# Altium schematic symbol library WatchX_Pro.SCHLIB: 25 symbols
Pins are listed as number, name and electrical type; pins without a type are passive.

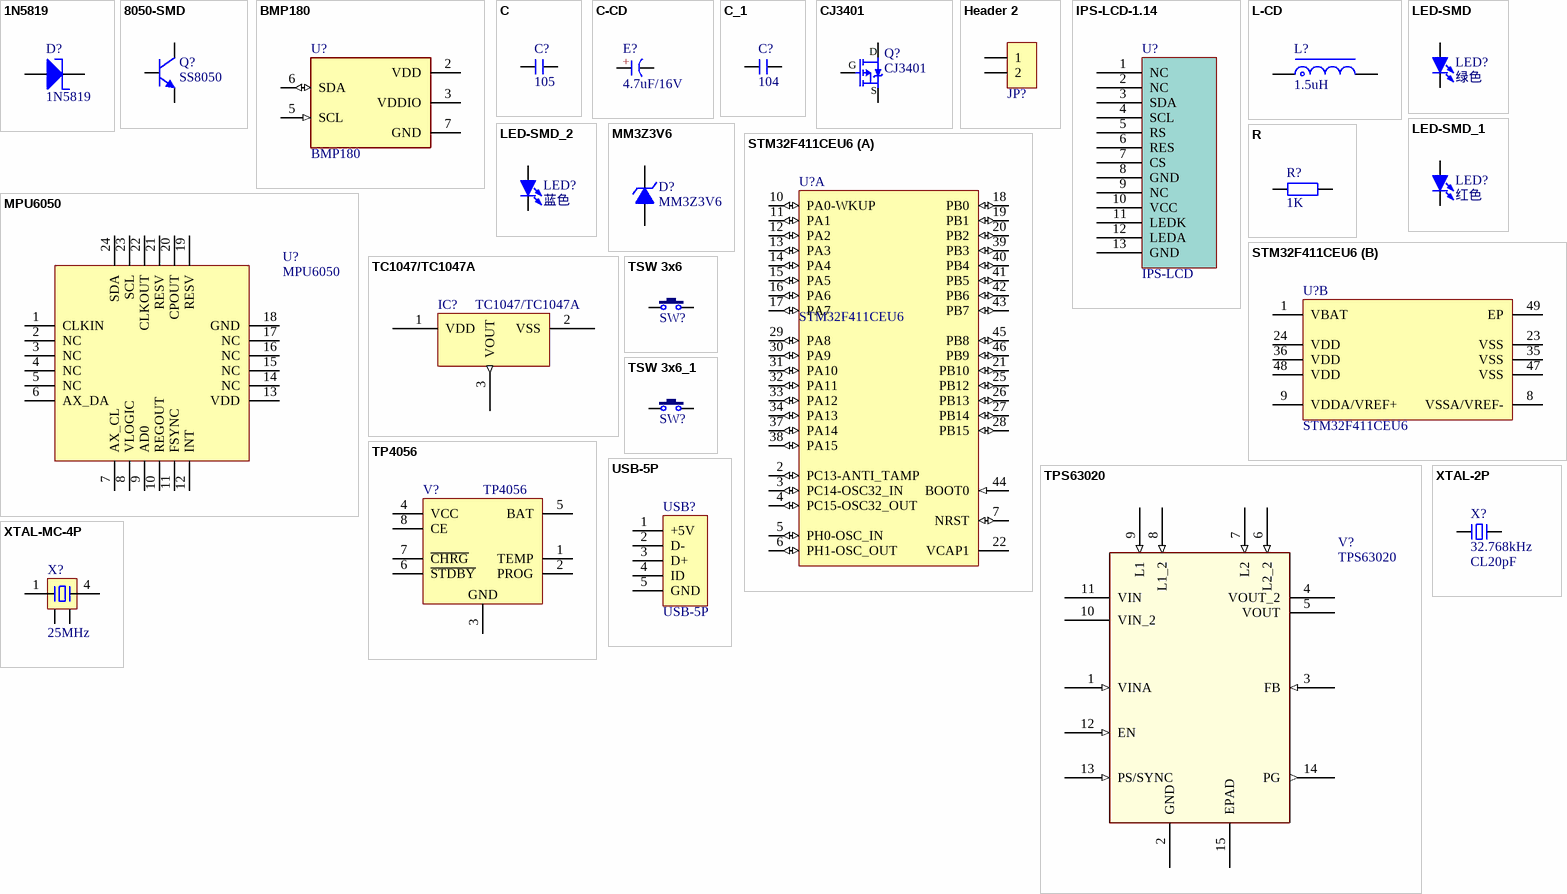
[diagram p0: symbols 1N5819 to XTAL-MC-4P]

## 1N5819
designator D?
肖特基二极管; 版权归属: 源创客; 属性: 40V/2A; BOM名称: 肖特基二极管; 学习资源: www.ooocke.com
footprint SOD-323 (1.8x1.3X0.9mm（长宽高，不包括引脚）)
pins: 1 A, 2 K

## 8050-SMD
designator Q?, comment SS8050
高频放大-NPN型 丝印J3Y; 版权归属: 源创客; 属性: 40V 1.5A 1W 100MHZ; BOM名称: 高频放大-NPN型; 学习资源: www.ooocke.com
footprint SOT23-3N (3x1.3x1mm(长宽高))
footprint SOT23-3L (3x1.3x1mm(长宽高))
footprint SOT23-3M (3x1.3x1mm(长宽高))
pins: 1 B, 2 E, 3 C

## BMP180
designator U?
气压传感器Pressure Sensor 4.35PSI ~ 15.95PSI _30kPa ~ 110kPa_ Absolute 16 ~ 19 b 7-VLGA; MF: Bosch Sensortec; Digi-Key_Purchase_URL: https://www.digikey.com/product-detail/en/bosch-sensortec/BMP180/828-1027-1-ND/2688260?utm_source=snapeda&utm_medium=aggregator&utm_campaign=symbol; Digi-Key_Part_Number: 828-1027-1-ND; Package: VLGA-7 Bosch Sensortec; SnapEDA_Link: https://www.snapeda.com/parts/BMP180/Bosch%20Sensortec/view-part/587596/?ref=snap; Value: *; MP: BMP180
footprint LGA-7
pins: 2 VDD (power), 3 VDDIO (power), 5 SCL (in), 6 SDA (io), 7 GND (power)

## C
designator C?, comment 105
无极性贴片电容; 版权归属: 黎明电子style; BOM名称: 无极性贴片电容; 学习资源: https://lmdzstyle.taobao.com/
footprint C 0402_M (无极性贴片电容)
pins: 1, 2

## C-CD
designator E?, comment 4.7uF/16V
贴片钽电容; 版权归属: 黎明电子style; BOM名称: 贴片钽电容; 学习资源: https://lmdzstyle.taobao.com/
footprint CD A(3216) (长3.2mm，宽1.6mm，厚1.6mm)
pins: 1 A, 2 K
text: +

## C_1
designator C?, comment 104
无极性贴片电容; 版权归属: 黎明电子style; BOM名称: 无极性贴片电容; 学习资源: https://lmdzstyle.taobao.com/
footprint C 0603_L (无极性贴片电容)
pins: 1, 2

## CJ3401
designator Q?
P沟道 30V/4.2A
footprint SOT23-3L (3x1.3x1mm(长宽高))
pins: 1 G, 2 S, 3 D

## Header 2
designator JP?, comment HDR-1X2  (value not drawn)
2P接插件; 版权归属: 源创客; BOM名称: 2P接插件; 学习资源: www.ooocke.com
footprint HDR2.54-LI-2P (排针，2脚)
pins: 1, 2

## IPS-LCD-1.14
designator U?, comment IPS-LCD
IPS-LCD-1.14寸裸屏spi接口
footprint 1.14IPS-LCD (1.14寸IPS-LCD裸屏SPI接口)
pins: 1 NC, 2 NC, 3 SDA, 4 SCL, 5 RS, 6 RES, 7 CS, 8 GND, 9 NC, 10 VCC, 11 LEDK, 12 LEDA, 13 GND

## L-CD
designator L?, comment 1.5uH
贴片功率电感; BOM名称: 功率电感; 版权归属: 黎明电子style; 学习资源: https://lmdzstyle.taobao.com/
footprint SMD,4.75x4.45x2mm (4.75x4.45x2mm长宽高)
pins: 1, 2

## LED-SMD
designator LED?, comment 绿色
贴片LED; 版权归属: 源创客; BOM名称: 贴片LED; 学习资源: www.ooocke.com
footprint LED 0603G (绿色0603LED)
pins: 1 A, 2 K

## LED-SMD_1
designator LED?, comment 红色
贴片LED; 版权归属: 源创客; BOM名称: 贴片LED; 学习资源: www.ooocke.com
footprint LED 0603R (红色0603LED)
pins: 1 A, 2 K

## LED-SMD_2
designator LED?, comment 蓝色
贴片LED; 版权归属: 源创客; BOM名称: 贴片LED; 学习资源: www.ooocke.com
footprint LED 0603B (蓝色0603LED)
pins: 1 A, 2 K

## MM3Z3V6
designator D?
3.6V/0.3W稳压管
footprint SOD-323 (1.8x1.3X0.9mm（长宽高，不包括引脚）)
pins: 1 A, 2 K

## MPU6050
designator U?
数字运动传感器; 版权归属: 源创客; BOM名称: 数字运动传感器; 学习资源: www.ooocke.com
footprint QFN24 4x4_L (24脚，长x宽x高：4x4x1mm，脚距：0.5mm)
pins: 1 CLKIN, 2 NC, 3 NC, 4 NC, 5 NC, 6 AX_DA, 7 AX_CL, 8 VLOGIC, 9 AD0, 10 REGOUT, 11 FSYNC, 12 INT, 13 VDD, 14 NC, 15 NC, 16 NC, 17 NC, 18 GND, 19 RESV, 20 CPOUT, 21 RESV, 22 CLKOUT, 23 SCL, 24 SDA

## R
designator R?, comment 1K
贴片电阻; 版权归属: 黎明电子style; BOM名称: 贴片电阻; 学习资源: https://lmdzstyle.taobao.com/
footprint R 0603_L (1/10W贴片电阻)
pins: 1, 2

## STM32F411CEU6
designator U?
ARM Cortex-M4 32-bit MCU+FPU, 105 DMIPS, 256 kB Flash, 64 kB Internal RAM, 36 I/Os, 48-pin UFQFPN, -40 to 85 degC, Tray; Manufacturer: STMicroelectronics; PartNumber: STM32F401CCU6; FLASH Size (Prog) (kB): 256; I/Os (High Current): 36; Internal RAM Size (kB): 64; Operating Frequency(F) (Processor speed) (MHz): 84; Supply Voltage(Vcc) max (V): 3.6; Supply Voltage(Vcc) min (V): 1.8; DatasheetVersion: Rev. 1; PackageVersion: Rev. 1, 04/2013; PackageReference: UFQFPN48; PackageDescription: 48-Pin Ultra Thin Fine Pitch Quad Flat No-Lead, 7 x 7 x 0.6 mm Body, 0.5 mm Pitch, Exposed Pad; Supplier 1: Newark; Supplier Part Number 1: 19X6217; Supplier 2: Mouser; Supplier Part Number 2: 511-STM32F401CCU6; Core: ARM Cortex-M4; Packing: Tray; Mounting Technology: Surface Mount; ComponentLink1Description: Manufacturer URL; ComponentLink1URL: http://www.st.com/web/en/home.html; ComponentLink2Description: Datasheet; ComponentLink2URL: http://www.st.com/st-web-ui/static/active/en/resource/technical/document/data_brief/DM00071938.pdf; ComponentLink3Description: Package Specification; ComponentLink3URL: http://www.st.com/st-web-ui/static/active/en/resource/technical/document/data_brief/DM00071938.pdf
footprint QFN48 7X7_N (48脚，长x宽x高：7x7x1mm，脚距：0.5mm)
part A pins: 2 PC13-ANTI_TAMP (io) "PC13-ANTI_TAMP/TAMP_1", 3 PC14-OSC32_IN (io) "PC14-OSC32_IN/OSC32_IN", 4 PC15-OSC32_OUT (io) "PC15-OSC32_OUT/OSC32_OUT", 5 PH0-OSC_IN (io) "PH0-OSC_IN/OSC_IN", 6 PH1-OSC_OUT (io) "PH1-OSC_OUT/OSC_OUT", 7 NRST (io), 10 PA0-WKUP (io) "PA0-WKUP/USART2_CTS,TIM2_CH1/TIM2_ETR,TIM5_CH1/ADC1_0,WKUP", 11 PA1 (io) "PA1/USART2_RTS,TIM2_CH2,TIM5_CH2/ADC1_1", 12 PA2 (io) "PA2/USART2_TX,TIM2_CH3,TIM5_CH3,TIM9_CH1/ADC1_2", 13 PA3 (io) "PA3/USART2_RX,TIM2_CH4,TIM5_CH4,TIM9_CH2/ADC1_3", 14 PA4 (io) "PA4/SPI1_NSS,SPI3_NSS/I2S3_WS,USART2_CK/ADC1_4", 15 PA5 (io) "PA5/SPI1_SCK,TIM2_CH1/TIM2_ETR/ADC1_5", 16 PA6 (io) "PA6/SPI1_MISO,TIM1_BKIN,TIM3_CH1/ADC1_6", 17 PA7 (io) "PA7/SPI1_MOSI,TIM1_CH1N,TIM3_CH2/ADC1_7", 18 PB0 (io) "PB0/TIM1_CH2N,TIM3_CH3/ADC1_8", 19 PB1 (io) "PB1/TIM1_CH3N,TIM3_CH4/ADC1_9", 20 PB2 (io), 21 PB10 (io) "PB10/SPI2_SCK/I2S2_CK,I2C2_SCL,TIM2_CH3", 22 VCAP1 (power), 25 PB12 (io) "PB12/SPI2_NSS/I2S2_WS,I2C2_SMBAL,TIM1_BKIN", 26 PB13 (io) "PB13/SPI2_SCK/I2S2_CK,TIM1_CH1N", 27 PB14 (io) "PB14/SPI2_MISO,I2S2ext_SD,TIM1_CH2N", 28 PB15 (io) "PB15/SPI2_MOSI/I2S2_SD,TIM1_CH3N,RTC_50Hz", 29 PA8 (io) "PA8/I2C3_SCL,USART1_CK,TIM1_CH1,USB_FS_SOF,MCO_1", 30 PA9 (io) "PA9/I2C3_SMBAL,USART1_TX,TIM1_CH2,USB_FS_VBUS", 31 PA10 (io) "PA10/USART1_RX,TIM1_CH3,USB_FS_ID", 32 PA11 (io) "PA11/USART1_CTS,USART6_TX,TIM1_CH4,USB_FS_DM", 33 PA12 (io) "PA12/USART1_RTS,USART6_RX,TIM1_ETR,USB_FS_DP", 34 PA13 (io) "PA13/JTMS-SWDIO", 37 PA14 (io) "PA14/JTCK-SWCLK", 38 PA15 (io) "PA15/SPI1_NSS,SPI3_NSS/I2S3_WS,TIM2_CH1/TIM2_ETR,JTDI", 39 PB3 (io) "PB3/SPI1_SCK,SPI3_SCK/I2S3_CK,I2C2_SDA,TIM2_CH2,JTDO-SWO", 40 PB4 (io) "PB4/SPI1_MISO,SPI3_MISO,I2S3ext_SD,I2C3_SDA,TIM3_CH1,JTRST", 41 PB5 (io) "PB5/SPI1_MOSI,SPI3_MOSI/I2S3_SD,I2C1_SMBAL,TIM3_CH2", 42 PB6 (io) "PB6/I2C1_SCL,USART1_TX,TIM4_CH1", 43 PB7 (io) "PB7/I2C1_SDA,USART1_RX,TIM4_CH2", 44 BOOT0 (in), 45 PB8 (io) "PB8/I2C1_SCL,TIM4_CH3,TIM10_CH1,SDIO_D4", 46 PB9 (io) "PB9/SPI2_NSS/I2S2_WS,I2C1_SDA,TIM4_CH4,TIM11_CH1,SDIO_D5"
part B pins: 1 VBAT (power), 8 VSSA/VREF- (power), 9 VDDA/VREF+ (power), 23 VSS (power), 24 VDD (power), 35 VSS (power), 36 VDD (power), 47 VSS (power), 48 VDD (power), 49 EP (power)

## TC1047/TC1047A
designator IC?
温度传感器 温度=(电压-500mV)÷10，测温范围-40℃~125℃
footprint SOT23-3L (3x1.3x1mm(长宽高))
pins: 1 VDD (power), 2 VSS (power), 3 VOUT (out)

## TP4056
designator V?
锂电池充电管理; 版权归属: 源创客; BOM名称: 锂电池充电管理; 学习资源: www.ooocke.com
footprint SOP8_L (5*6*1.8mm（长宽高）)
pins: 1 TEMP, 2 PROG, 3 GND, 4 VCC, 5 BAT, 6 ~{STDBY}, 7 ~{CHRG}, 8 CE

## TPS63020
designator V?
单电感器降压/升压转换器   High Efficiency Single Inductor Buck-Boost Converter with 4A Switch
footprint VSON - 14
pins: 1 VINA (in), 2 GND (power), 3 FB (in), 4 VOUT_2 (power), 5 VOUT (power), 6 L2_2 (in), 7 L2 (in), 8 L1_2 (in), 9 L1 (in), 10 VIN_2 (power), 11 VIN (power), 12 EN (in), 13 PS/SYNC (in), 14 PG (out), 15 EPAD

## TSW 3x6
designator SW?, comment 3x6x5  (value not drawn)
3x6轻触开关; 版权归属: 源创客; BOM名称: 3x6轻触开关; 学习资源: www.ooocke.com
footprint TSW 3*6*4.3-S-W (侧立贴片3*6*4.3)
footprint TSW 4.6*1.82*3.5-S-W
pins: 1, 2

## TSW 3x6_1
designator SW?, comment 3x6x5  (value not drawn)
3x6轻触开关; 版权归属: 源创客; BOM名称: 3x6轻触开关; 学习资源: www.ooocke.com
footprint TSW 4.6*1.82*3.5-S-W (侧立贴片4.6*1.82*3.5)
pins: 1, 2

## USB-5P
designator USB?
微型USB母座; 版权归属: 源创客; BOM名称: 微型USB母座; 学习资源: www.ooocke.com
footprint USB-MICRO_A (micro型USB ，5.9*8.2*2.5mm)
footprint USB-MICRO_B (micro型USB ，5.7*7.8*2.5mm)
footprint USB-MINI-A (MINI型USB，7.9*7.5*4.1mm)
footprint USB-MICRO_C (micro型USB ，5.7*7.8*2.5mm)
footprint USB-MICRO_D (micro型USB ，6.7*7.5*2.5mm)
footprint USB-MICRO_E (micro型USB ，5.9*8.2*2.5mm)
footprint USB-MICRO_F (micro型USB ，5.9*8.2*2.5mm)
pins: 1 +5V, 2 D-, 3 D+, 4 ID, 5 GND

## XTAL-2P
designator X?, comment 32.768kHz  负载电容: CL20pF
2脚无源脚晶振; 版权归属: 源创客; BOM名称: 2脚无源脚晶振; 学习资源: www.ooocke.com
footprint OSC 1016-2P (1.6*1.0*0.5mm(长宽高))
pins: 1, 2

## XTAL-MC-4P
designator X?, comment 25MHz
MC系列4脚晶振; BOM名称: 2脚无源脚晶振; 版权归属: 源创客; 学习资源: www.ooocke.com
footprint OSC 1612-4P (1.6*1.2*0.35mm（长宽高）)
pins: 1, 2, 3, 4